# Altium schematic symbol library 0603 2.2K.Schlib: 1 symbol
Pins are listed as number, name and electrical type; pins without a type are passive.

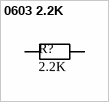
[diagram p0: symbol 0603 2.2K]

## 0603 2.2K
designator R?, comment value 2.2K  (hidden comment: Resistor)
Chip Resistor - Surface Mount 2.2KOhms ±1% 1/10W 0603 RoHS; LCSC Part #: C4190
footprint RES 0603_1608 (Chip Resistor, 2-Leads, Body 1.60x0.80mm, IPC Medium Density)
pins: 1, 2